# Altium integrated library Linear Technology Power Management LDO Linear Regulators.IntLib: 2339 symbols (part 129 of 131)
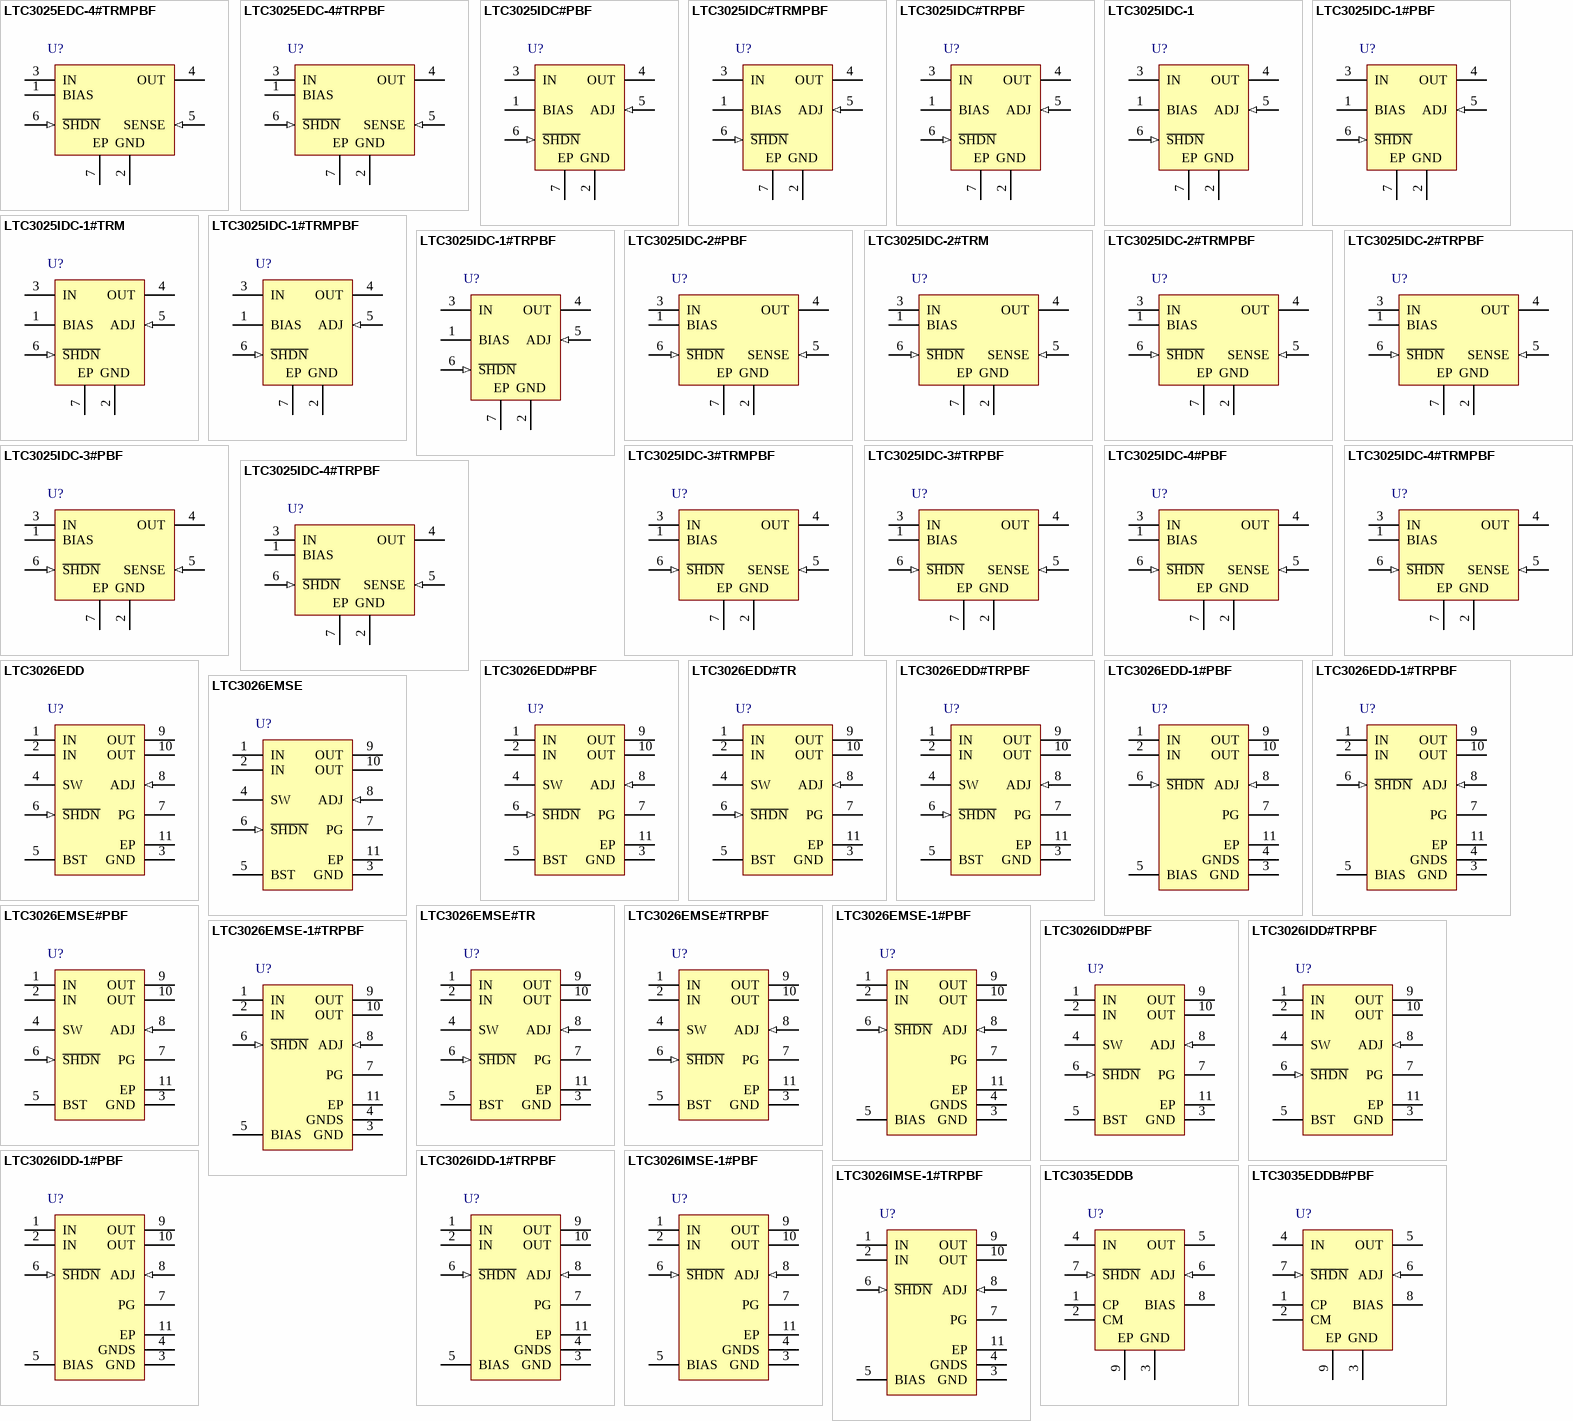
[diagram p197: symbols LTC3025EDC-4#TRMPBF to LTC3035EDDB#PBF]

## LTC3025IDC-3#PBF
designator U?
500 mA Micropower VLDO Linear Regulator, 1.7 to 5.5 V Vin, 1.5 V Vout, 6-pin SON (DC6-6), -40 to 125 degC, Pb-Free; Manufacturer: Linear Technology; PartNumber: LTC3025IDC-3#PBF; Discrete Pass Element: no; Dropout Voltage(V): 0.085; Iout(mA): 500; Isupply(mA): 0.05; Noise(uV): 80; Number of Outputs: 1; Output Voltage: 1.5 V; Vin Max(V): 5.5; Vin Min(V): 1.7; DatasheetVersion: Rev. F; PackageVersion: Rev. B, 06/2010; PackageReference: DC6-6; PackageDescription: 6-Pin Plastic DFN, Body 2 x 2 mm, Pitch 0.5 mm; Supplier 1: Newark; Supplier Part Number 1: 78T3138; RoHS: TRUE; Shutdown Current(uA): 1; Mounting Technology: Surface Mount; Code_JEDEC: MO-229; ComponentLink1Description: Manufacturer URL; ComponentLink1URL: http://www.linear.com/; ComponentLink2Description: Datasheet; ComponentLink2URL: http://cds.linear.com/docs/en/datasheet/30251234ff.pdf; ComponentLink3Description: Package Specification; ComponentLink3URL: http://cds.linear.com/docs/en/packaging/DFN_6_05-08-1703.pdf
footprint LT-DC6-6_V (SON, 6-Leads, Body 2x2mm, Pitch 0.5mm, Thermal Pad 1.42x0.61mm)
pins: 1 BIAS (power) "BIAS Input Voltage. BIAS provides internal power for LTC3025-X circuitry. The BIAS pin should be locally bypassed to ground if the LTC3025-X is more than a few inches away from another source of bulk capacitance. In general, (See Datasheet)", 2 GND (power) "Ground. Connect to a ground plane.", 3 IN (power) "Input Supply Voltage. The output load current is supplied directly from IN. The IN pin should be locally bypassed to ground if the LTC3025-X is more than a few inches away from another source of bulk capacitance. In general, (See Datasheet)", 4 OUT (power) "Regulated Output Voltage. The OUT pin supplies power to the load. A minimum ceramic output capacitor of at least 1uF is required to ensure stability. Larger output capacitors may be required for applications with large (See Datasheet)", 5 SENSE (in) "Output Sense. The sense is the input to the resistor divider driving the error amplifier. Optimum regulation will be obtained at the point where SENSE is connected to OUT. The SENSE pin bias current is 10uA at the nominal (See Datasheet)", 6 ~{SHDN} (in) "Shutdown Input, Active Low. This pin is used to put the LTC3025-X into shutdown. The S\H\D\N\ pin current is typically less than 10nA. The S\H\D\N\ pin cannot be left floating and must be tied to a valid logic level (such as (See Datasheet)", 7 EP (power) "Ground and Heat Sink. Must be soldered to PCB ground plane or large pad for optimal thermal performance."

## LTC3025IDC-3#TRMPBF
designator U?
500 mA Micropower VLDO Linear Regulator, 1.7 to 5.5 V Vin, 1.5 V Vout, 6-pin SON (DC6-6), -40 to 125 degC, Pb-Free, Mini Tape and Reel; Manufacturer: Linear Technology; PartNumber: LTC3025IDC-3#TRMPBF; Discrete Pass Element: no; Dropout Voltage(V): 0.085; Iout(mA): 500; Isupply(mA): 0.05; Noise(uV): 80; Number of Outputs: 1; Output Voltage: 1.5 V; Vin Max(V): 5.5; Vin Min(V): 1.7; DatasheetVersion: Rev. F; PackageVersion: Rev. B, 06/2010; PackageReference: DC6-6; PackageDescription: 6-Pin Plastic DFN, Body 2 x 2 mm, Pitch 0.5 mm; Supplier 1: Digi-Key; Supplier Part Number 1: LTC3025IDC-3#TRMPBF-ND; Packing: Mini Tape and Reel; RoHS: TRUE; Shutdown Current(uA): 1; Mounting Technology: Surface Mount; Code_JEDEC: MO-229; ComponentLink1Description: Manufacturer URL; ComponentLink1URL: http://www.linear.com/; ComponentLink2Description: Datasheet; ComponentLink2URL: http://cds.linear.com/docs/en/datasheet/30251234ff.pdf; ComponentLink3Description: Package Specification; ComponentLink3URL: http://cds.linear.com/docs/en/packaging/DFN_6_05-08-1703.pdf
footprint LT-DC6-6_V (SON, 6-Leads, Body 2x2mm, Pitch 0.5mm, Thermal Pad 1.42x0.61mm)
pins: 1 BIAS (power) "BIAS Input Voltage. BIAS provides internal power for LTC3025-X circuitry. The BIAS pin should be locally bypassed to ground if the LTC3025-X is more than a few inches away from another source of bulk capacitance. In general, (See Datasheet)", 2 GND (power) "Ground. Connect to a ground plane.", 3 IN (power) "Input Supply Voltage. The output load current is supplied directly from IN. The IN pin should be locally bypassed to ground if the LTC3025-X is more than a few inches away from another source of bulk capacitance. In general, (See Datasheet)", 4 OUT (power) "Regulated Output Voltage. The OUT pin supplies power to the load. A minimum ceramic output capacitor of at least 1uF is required to ensure stability. Larger output capacitors may be required for applications with large (See Datasheet)", 5 SENSE (in) "Output Sense. The sense is the input to the resistor divider driving the error amplifier. Optimum regulation will be obtained at the point where SENSE is connected to OUT. The SENSE pin bias current is 10uA at the nominal (See Datasheet)", 6 ~{SHDN} (in) "Shutdown Input, Active Low. This pin is used to put the LTC3025-X into shutdown. The S\H\D\N\ pin current is typically less than 10nA. The S\H\D\N\ pin cannot be left floating and must be tied to a valid logic level (such as (See Datasheet)", 7 EP (power) "Ground and Heat Sink. Must be soldered to PCB ground plane or large pad for optimal thermal performance."

## LTC3025IDC-3#TRPBF
designator U?
500 mA Micropower VLDO Linear Regulator, 1.7 to 5.5 V Vin, 1.5 V Vout, 6-pin SON (DC6-6), -40 to 125 degC, Pb-Free, Tape and Reel; Manufacturer: Linear Technology; PartNumber: LTC3025IDC-3#TRPBF; Discrete Pass Element: no; Dropout Voltage(V): 0.085; Iout(mA): 500; Isupply(mA): 0.05; Noise(uV): 80; Number of Outputs: 1; Output Voltage: 1.5 V; Vin Max(V): 5.5; Vin Min(V): 1.7; DatasheetVersion: Rev. F; PackageVersion: Rev. B, 06/2010; PackageReference: DC6-6; PackageDescription: 6-Pin Plastic DFN, Body 2 x 2 mm, Pitch 0.5 mm; Supplier 1: Digi-Key; Supplier Part Number 1: LTC3025IDC-3#TRPBF-ND; Packing: Tape and Reel; RoHS: TRUE; Shutdown Current(uA): 1; Mounting Technology: Surface Mount; Code_JEDEC: MO-229; ComponentLink1Description: Manufacturer URL; ComponentLink1URL: http://www.linear.com/; ComponentLink2Description: Datasheet; ComponentLink2URL: http://cds.linear.com/docs/en/datasheet/30251234ff.pdf; ComponentLink3Description: Package Specification; ComponentLink3URL: http://cds.linear.com/docs/en/packaging/DFN_6_05-08-1703.pdf
footprint LT-DC6-6_V (SON, 6-Leads, Body 2x2mm, Pitch 0.5mm, Thermal Pad 1.42x0.61mm)
pins: 1 BIAS (power) "BIAS Input Voltage. BIAS provides internal power for LTC3025-X circuitry. The BIAS pin should be locally bypassed to ground if the LTC3025-X is more than a few inches away from another source of bulk capacitance. In general, (See Datasheet)", 2 GND (power) "Ground. Connect to a ground plane.", 3 IN (power) "Input Supply Voltage. The output load current is supplied directly from IN. The IN pin should be locally bypassed to ground if the LTC3025-X is more than a few inches away from another source of bulk capacitance. In general, (See Datasheet)", 4 OUT (power) "Regulated Output Voltage. The OUT pin supplies power to the load. A minimum ceramic output capacitor of at least 1uF is required to ensure stability. Larger output capacitors may be required for applications with large (See Datasheet)", 5 SENSE (in) "Output Sense. The sense is the input to the resistor divider driving the error amplifier. Optimum regulation will be obtained at the point where SENSE is connected to OUT. The SENSE pin bias current is 10uA at the nominal (See Datasheet)", 6 ~{SHDN} (in) "Shutdown Input, Active Low. This pin is used to put the LTC3025-X into shutdown. The S\H\D\N\ pin current is typically less than 10nA. The S\H\D\N\ pin cannot be left floating and must be tied to a valid logic level (such as (See Datasheet)", 7 EP (power) "Ground and Heat Sink. Must be soldered to PCB ground plane or large pad for optimal thermal performance."

## LTC3025IDC-4#PBF
designator U?
500 mA Micropower VLDO Linear Regulator, 2 to 5.5 V Vin, 1.8 V Vout, 6-pin SON (DC6-6), -40 to 125 degC, Pb-Free; Manufacturer: Linear Technology; PartNumber: LTC3025IDC-4#PBF; Discrete Pass Element: no; Dropout Voltage(V): 0.085; Iout(mA): 500; Isupply(mA): 0.05; Noise(uV): 80; Number of Outputs: 1; Output Voltage: 1.8 V; Vin Max(V): 5.5; Vin Min(V): 2; DatasheetVersion: Rev. F; PackageVersion: Rev. B, 06/2010; PackageReference: DC6-6; PackageDescription: 6-Pin Plastic DFN, Body 2 x 2 mm, Pitch 0.5 mm; Supplier 1: Newark; Supplier Part Number 1: 78T3139; RoHS: TRUE; Shutdown Current(uA): 1; Mounting Technology: Surface Mount; Code_JEDEC: MO-229; ComponentLink1Description: Manufacturer URL; ComponentLink1URL: http://www.linear.com/; ComponentLink2Description: Datasheet; ComponentLink2URL: http://cds.linear.com/docs/en/datasheet/30251234ff.pdf; ComponentLink3Description: Package Specification; ComponentLink3URL: http://cds.linear.com/docs/en/packaging/DFN_6_05-08-1703.pdf
footprint LT-DC6-6_V (SON, 6-Leads, Body 2x2mm, Pitch 0.5mm, Thermal Pad 1.42x0.61mm)
pins: 1 BIAS (power) "BIAS Input Voltage. BIAS provides internal power for LTC3025-X circuitry. The BIAS pin should be locally bypassed to ground if the LTC3025-X is more than a few inches away from another source of bulk capacitance. In general, (See Datasheet)", 2 GND (power) "Ground. Connect to a ground plane.", 3 IN (power) "Input Supply Voltage. The output load current is supplied directly from IN. The IN pin should be locally bypassed to ground if the LTC3025-X is more than a few inches away from another source of bulk capacitance. In general, (See Datasheet)", 4 OUT (power) "Regulated Output Voltage. The OUT pin supplies power to the load. A minimum ceramic output capacitor of at least 1uF is required to ensure stability. Larger output capacitors may be required for applications with large (See Datasheet)", 5 SENSE (in) "Output Sense. The sense is the input to the resistor divider driving the error amplifier. Optimum regulation will be obtained at the point where SENSE is connected to OUT. The SENSE pin bias current is 10uA at the nominal (See Datasheet)", 6 ~{SHDN} (in) "Shutdown Input, Active Low. This pin is used to put the LTC3025-X into shutdown. The S\H\D\N\ pin current is typically less than 10nA. The S\H\D\N\ pin cannot be left floating and must be tied to a valid logic level (such as (See Datasheet)", 7 EP (power) "Ground and Heat Sink. Must be soldered to PCB ground plane or large pad for optimal thermal performance."

## LTC3025IDC-4#TRMPBF
designator U?
500 mA Micropower VLDO Linear Regulator, 2 to 5.5 V Vin, 1.8 V Vout, 6-pin SON (DC6-6), -40 to 125 degC, Pb-Free, Mini Tape and Reel; Manufacturer: Linear Technology; PartNumber: LTC3025IDC-4#TRMPBF; Discrete Pass Element: no; Dropout Voltage(V): 0.085; Iout(mA): 500; Isupply(mA): 0.05; Noise(uV): 80; Number of Outputs: 1; Output Voltage: 1.8 V; Vin Max(V): 5.5; Vin Min(V): 2; DatasheetVersion: Rev. F; PackageVersion: Rev. B, 06/2010; PackageReference: DC6-6; PackageDescription: 6-Pin Plastic DFN, Body 2 x 2 mm, Pitch 0.5 mm; Supplier 1: Digi-Key; Supplier Part Number 1: LTC3025IDC-4#TRMPBF-ND; Packing: Mini Tape and Reel; RoHS: TRUE; Shutdown Current(uA): 1; Mounting Technology: Surface Mount; Code_JEDEC: MO-229; ComponentLink1Description: Manufacturer URL; ComponentLink1URL: http://www.linear.com/; ComponentLink2Description: Datasheet; ComponentLink2URL: http://cds.linear.com/docs/en/datasheet/30251234ff.pdf; ComponentLink3Description: Package Specification; ComponentLink3URL: http://cds.linear.com/docs/en/packaging/DFN_6_05-08-1703.pdf
footprint LT-DC6-6_V (SON, 6-Leads, Body 2x2mm, Pitch 0.5mm, Thermal Pad 1.42x0.61mm)
pins: 1 BIAS (power) "BIAS Input Voltage. BIAS provides internal power for LTC3025-X circuitry. The BIAS pin should be locally bypassed to ground if the LTC3025-X is more than a few inches away from another source of bulk capacitance. In general, (See Datasheet)", 2 GND (power) "Ground. Connect to a ground plane.", 3 IN (power) "Input Supply Voltage. The output load current is supplied directly from IN. The IN pin should be locally bypassed to ground if the LTC3025-X is more than a few inches away from another source of bulk capacitance. In general, (See Datasheet)", 4 OUT (power) "Regulated Output Voltage. The OUT pin supplies power to the load. A minimum ceramic output capacitor of at least 1uF is required to ensure stability. Larger output capacitors may be required for applications with large (See Datasheet)", 5 SENSE (in) "Output Sense. The sense is the input to the resistor divider driving the error amplifier. Optimum regulation will be obtained at the point where SENSE is connected to OUT. The SENSE pin bias current is 10uA at the nominal (See Datasheet)", 6 ~{SHDN} (in) "Shutdown Input, Active Low. This pin is used to put the LTC3025-X into shutdown. The S\H\D\N\ pin current is typically less than 10nA. The S\H\D\N\ pin cannot be left floating and must be tied to a valid logic level (such as (See Datasheet)", 7 EP (power) "Ground and Heat Sink. Must be soldered to PCB ground plane or large pad for optimal thermal performance."

## LTC3025IDC-4#TRPBF
designator U?
500 mA Micropower VLDO Linear Regulator, 2 to 5.5 V Vin, 1.8 V Vout, 6-pin SON (DC6-6), -40 to 125 degC, Pb-Free, Tape and Reel; Manufacturer: Linear Technology; PartNumber: LTC3025IDC-4#TRPBF; Discrete Pass Element: no; Dropout Voltage(V): 0.085; Iout(mA): 500; Isupply(mA): 0.05; Noise(uV): 80; Number of Outputs: 1; Output Voltage: 1.8 V; Vin Max(V): 5.5; Vin Min(V): 2; DatasheetVersion: Rev. F; PackageVersion: Rev. B, 06/2010; PackageReference: DC6-6; PackageDescription: 6-Pin Plastic DFN, Body 2 x 2 mm, Pitch 0.5 mm; Supplier 1: Digi-Key; Supplier Part Number 1: LTC3025IDC-4#TRPBF-ND; Packing: Tape and Reel; RoHS: TRUE; Shutdown Current(uA): 1; Mounting Technology: Surface Mount; Code_JEDEC: MO-229; ComponentLink1Description: Manufacturer URL; ComponentLink1URL: http://www.linear.com/; ComponentLink2Description: Datasheet; ComponentLink2URL: http://cds.linear.com/docs/en/datasheet/30251234ff.pdf; ComponentLink3Description: Package Specification; ComponentLink3URL: http://cds.linear.com/docs/en/packaging/DFN_6_05-08-1703.pdf
footprint LT-DC6-6_V (SON, 6-Leads, Body 2x2mm, Pitch 0.5mm, Thermal Pad 1.42x0.61mm)
pins: 1 BIAS (power) "BIAS Input Voltage. BIAS provides internal power for LTC3025-X circuitry. The BIAS pin should be locally bypassed to ground if the LTC3025-X is more than a few inches away from another source of bulk capacitance. In general, (See Datasheet)", 2 GND (power) "Ground. Connect to a ground plane.", 3 IN (power) "Input Supply Voltage. The output load current is supplied directly from IN. The IN pin should be locally bypassed to ground if the LTC3025-X is more than a few inches away from another source of bulk capacitance. In general, (See Datasheet)", 4 OUT (power) "Regulated Output Voltage. The OUT pin supplies power to the load. A minimum ceramic output capacitor of at least 1uF is required to ensure stability. Larger output capacitors may be required for applications with large (See Datasheet)", 5 SENSE (in) "Output Sense. The sense is the input to the resistor divider driving the error amplifier. Optimum regulation will be obtained at the point where SENSE is connected to OUT. The SENSE pin bias current is 10uA at the nominal (See Datasheet)", 6 ~{SHDN} (in) "Shutdown Input, Active Low. This pin is used to put the LTC3025-X into shutdown. The S\H\D\N\ pin current is typically less than 10nA. The S\H\D\N\ pin cannot be left floating and must be tied to a valid logic level (such as (See Datasheet)", 7 EP (power) "Ground and Heat Sink. Must be soldered to PCB ground plane or large pad for optimal thermal performance."

## LTC3026EDD
designator U?
100 mV Dropout Voltage, Internal Boost Converter (or External 5 V Supply) Provides Bias Voltage for Internal N-FET Pass Element, 1.14 to 5.5 V Vin, Adjustable Vout, 10-pin SON (DD-10), -40 to 125 degC; Manufacturer: Linear Technology; PartNumber: LTC3026EDD; Discrete Pass Element: no; Dropout Voltage(V): 0.1; Iout(mA): 1500; Isupply(mA): 0.4; Noise(uV): 110; Number of Outputs: 1; Output Voltage: Adj; PSRR(dB): 42; Shutdown Current(uA): 0.6; Vin Max(V): 5.5; Vin Min(V): 1.14; Vout Max(V): 2.6; DatasheetVersion: Rev. F; PackageVersion: Rev. C, 06/2010; PackageReference: DD-10; PackageDescription: 10-Pin Plastic DFN, Body 3 x 3 mm, Pitch 0.5 mm; Supplier 1: Newark; Supplier Part Number 1: 56M7305; RoHS: FALSE; Vout Min(V): 0.4; Mounting Technology: Surface Mount; Code_JEDEC: MO-229; ComponentLink1Description: Manufacturer URL; ComponentLink1URL: http://www.linear.com/; ComponentLink2Description: Datasheet; ComponentLink2URL: http://cds.linear.com/docs/en/datasheet/3026ff.pdf; ComponentLink3Description: Package Specification; ComponentLink3URL: http://cds.linear.com/docs/en/packaging/DFN_10_05-08-1699.pdf
footprint LT-DD-10_V (SON, 10-Leads, Body 3x3mm, Pitch 0.5mm, Thermal Pad 2.38x1.65mm)
pins: 1 IN (power) "Input Supply Voltage. Output load current is supplied directly from IN. The IN pin should be locally bypassed to ground if the LTC3026 is more than a few inches away from another source of bulk capacitance. In general, the (See Datasheet)", 2 IN (power) "Input Supply Voltage. Output load current is supplied directly from IN. The IN pin should be locally bypassed to ground if the LTC3026 is more than a few inches away from another source of bulk capacitance. In general, the (See Datasheet)", 3 GND (power) "Ground and Heat Sink. Connect the exposed pad to the PCB ground plane or large pad for optimum thermal performance.", 4 SW "Boost Switching Pin. This is the boost converter switching pin. A 4.7uH to 40uH inductor able to handle a peak current of 150mA is connected from this pin to VIN. The boost converter can be disabled by floating this pin. (See Datasheet)", 5 BST "Boost Output Voltage Pin. With boost converter enabled bypass the BST pin with a >=4.7uF low ESR ceramic capacitor to GND (CBST). BST does not load VIN when in shutdown, but is diode connected to IN through the external (See Datasheet)", 6 ~{SHDN} (in) "Shutdown Input Pin, Active Low. This pin is used to put the LTC3026 into shutdown. The S\H\D\N\ pin current is typically less than 10nA. The S\H\D\N\ pin cannot be left floating and must be tied to a valid logic level (such (See Datasheet)", 7 PG (hiz) "Power Good Pin. When PG is high impedance OUT is in regulation, and low impedance when OUT is in shutdown or out of regulation.", 8 ADJ (in) "Output Adjust Pin. This is the input to the error amplifier. It has a typical bias current of 0.1nA flowing into the pin. The ADJ pin reference voltage is 0.4V referenced to ground. The output voltage range is 0.4V to 2.6V (See Datasheet)", 9 OUT (power) "Regulated Output Voltage. The OUT pins supply power to the load. A minimum output capacitance of 5uF is required to ensure stability. Larger output capacitors may be required for applications with large transient loads to (See Datasheet)", 10 OUT (power) "Regulated Output Voltage. The OUT pins supply power to the load. A minimum output capacitance of 5uF is required to ensure stability. Larger output capacitors may be required for applications with large transient loads to (See Datasheet)", 11 EP (power) "Ground and Heat Sink. Connect the exposed pad to the PCB ground plane or large pad for optimum thermal performance."

## LTC3026EDD#PBF
designator U?
100 mV Dropout Voltage, Internal Boost Converter (or External 5 V Supply) Provides Bias Voltage for Internal N-FET Pass Element, 1.14 to 5.5 V Vin, Adjustable Vout, 10-pin SON (DD-10), -40 to 125 degC, Pb-Free; Manufacturer: Linear Technology; PartNumber: LTC3026EDD#PBF; Discrete Pass Element: no; Dropout Voltage(V): 0.1; Iout(mA): 1500; Isupply(mA): 0.4; Noise(uV): 110; Number of Outputs: 1; Output Voltage: Adj; PSRR(dB): 42; Shutdown Current(uA): 0.6; Vin Max(V): 5.5; Vin Min(V): 1.14; Vout Max(V): 2.6; DatasheetVersion: Rev. F; PackageVersion: Rev. C, 06/2010; PackageReference: DD-10; PackageDescription: 10-Pin Plastic DFN, Body 3 x 3 mm, Pitch 0.5 mm; Supplier 1: Digi-Key; Supplier Part Number 1: LTC3026EDD#PBF-ND; Supplier 2: Farnell; Supplier Part Number 2: 1663705; Supplier 3: Newark; Supplier Part Number 3: 56M7306; RoHS: TRUE; Vout Min(V): 0.4; Mounting Technology: Surface Mount; Code_JEDEC: MO-229; ComponentLink1Description: Manufacturer URL; ComponentLink1URL: http://www.linear.com/; ComponentLink2Description: Datasheet; ComponentLink2URL: http://cds.linear.com/docs/en/datasheet/3026ff.pdf; ComponentLink3Description: Package Specification; ComponentLink3URL: http://cds.linear.com/docs/en/packaging/DFN_10_05-08-1699.pdf
footprint LT-DD-10_V (SON, 10-Leads, Body 3x3mm, Pitch 0.5mm, Thermal Pad 2.38x1.65mm)
pins: 1 IN (power) "Input Supply Voltage. Output load current is supplied directly from IN. The IN pin should be locally bypassed to ground if the LTC3026 is more than a few inches away from another source of bulk capacitance. In general, the (See Datasheet)", 2 IN (power) "Input Supply Voltage. Output load current is supplied directly from IN. The IN pin should be locally bypassed to ground if the LTC3026 is more than a few inches away from another source of bulk capacitance. In general, the (See Datasheet)", 3 GND (power) "Ground and Heat Sink. Connect the exposed pad to the PCB ground plane or large pad for optimum thermal performance.", 4 SW "Boost Switching Pin. This is the boost converter switching pin. A 4.7uH to 40uH inductor able to handle a peak current of 150mA is connected from this pin to VIN. The boost converter can be disabled by floating this pin. (See Datasheet)", 5 BST "Boost Output Voltage Pin. With boost converter enabled bypass the BST pin with a >=4.7uF low ESR ceramic capacitor to GND (CBST). BST does not load VIN when in shutdown, but is diode connected to IN through the external (See Datasheet)", 6 ~{SHDN} (in) "Shutdown Input Pin, Active Low. This pin is used to put the LTC3026 into shutdown. The S\H\D\N\ pin current is typically less than 10nA. The S\H\D\N\ pin cannot be left floating and must be tied to a valid logic level (such (See Datasheet)", 7 PG (hiz) "Power Good Pin. When PG is high impedance OUT is in regulation, and low impedance when OUT is in shutdown or out of regulation.", 8 ADJ (in) "Output Adjust Pin. This is the input to the error amplifier. It has a typical bias current of 0.1nA flowing into the pin. The ADJ pin reference voltage is 0.4V referenced to ground. The output voltage range is 0.4V to 2.6V (See Datasheet)", 9 OUT (power) "Regulated Output Voltage. The OUT pins supply power to the load. A minimum output capacitance of 5uF is required to ensure stability. Larger output capacitors may be required for applications with large transient loads to (See Datasheet)", 10 OUT (power) "Regulated Output Voltage. The OUT pins supply power to the load. A minimum output capacitance of 5uF is required to ensure stability. Larger output capacitors may be required for applications with large transient loads to (See Datasheet)", 11 EP (power) "Ground and Heat Sink. Connect the exposed pad to the PCB ground plane or large pad for optimum thermal performance."

## LTC3026EDD#TR
designator U?
100 mV Dropout Voltage, Internal Boost Converter (or External 5 V Supply) Provides Bias Voltage for Internal N-FET Pass Element, 1.14 to 5.5 V Vin, Adjustable Vout, 10-pin SON (DD-10), -40 to 125 degC, Tape and Reel; Manufacturer: Linear Technology; PartNumber: LTC3026EDD#TR; Discrete Pass Element: no; Dropout Voltage(V): 0.1; Iout(mA): 1500; Isupply(mA): 0.4; Noise(uV): 110; Number of Outputs: 1; Output Voltage: Adj; PSRR(dB): 42; Shutdown Current(uA): 0.6; Vin Max(V): 5.5; Vin Min(V): 1.14; Vout Max(V): 2.6; DatasheetVersion: Rev. F; PackageVersion: Rev. C, 06/2010; PackageReference: DD-10; PackageDescription: 10-Pin Plastic DFN, Body 3 x 3 mm, Pitch 0.5 mm; Packing: Tape and Reel; RoHS: FALSE; Vout Min(V): 0.4; Mounting Technology: Surface Mount; Code_JEDEC: MO-229; ComponentLink1Description: Manufacturer URL; ComponentLink1URL: http://www.linear.com/; ComponentLink2Description: Datasheet; ComponentLink2URL: http://cds.linear.com/docs/en/datasheet/3026ff.pdf; ComponentLink3Description: Package Specification; ComponentLink3URL: http://cds.linear.com/docs/en/packaging/DFN_10_05-08-1699.pdf
footprint LT-DD-10_V (SON, 10-Leads, Body 3x3mm, Pitch 0.5mm, Thermal Pad 2.38x1.65mm)
pins: 1 IN (power) "Input Supply Voltage. Output load current is supplied directly from IN. The IN pin should be locally bypassed to ground if the LTC3026 is more than a few inches away from another source of bulk capacitance. In general, the (See Datasheet)", 2 IN (power) "Input Supply Voltage. Output load current is supplied directly from IN. The IN pin should be locally bypassed to ground if the LTC3026 is more than a few inches away from another source of bulk capacitance. In general, the (See Datasheet)", 3 GND (power) "Ground and Heat Sink. Connect the exposed pad to the PCB ground plane or large pad for optimum thermal performance.", 4 SW "Boost Switching Pin. This is the boost converter switching pin. A 4.7uH to 40uH inductor able to handle a peak current of 150mA is connected from this pin to VIN. The boost converter can be disabled by floating this pin. (See Datasheet)", 5 BST "Boost Output Voltage Pin. With boost converter enabled bypass the BST pin with a >=4.7uF low ESR ceramic capacitor to GND (CBST). BST does not load VIN when in shutdown, but is diode connected to IN through the external (See Datasheet)", 6 ~{SHDN} (in) "Shutdown Input Pin, Active Low. This pin is used to put the LTC3026 into shutdown. The S\H\D\N\ pin current is typically less than 10nA. The S\H\D\N\ pin cannot be left floating and must be tied to a valid logic level (such (See Datasheet)", 7 PG (hiz) "Power Good Pin. When PG is high impedance OUT is in regulation, and low impedance when OUT is in shutdown or out of regulation.", 8 ADJ (in) "Output Adjust Pin. This is the input to the error amplifier. It has a typical bias current of 0.1nA flowing into the pin. The ADJ pin reference voltage is 0.4V referenced to ground. The output voltage range is 0.4V to 2.6V (See Datasheet)", 9 OUT (power) "Regulated Output Voltage. The OUT pins supply power to the load. A minimum output capacitance of 5uF is required to ensure stability. Larger output capacitors may be required for applications with large transient loads to (See Datasheet)", 10 OUT (power) "Regulated Output Voltage. The OUT pins supply power to the load. A minimum output capacitance of 5uF is required to ensure stability. Larger output capacitors may be required for applications with large transient loads to (See Datasheet)", 11 EP (power) "Ground and Heat Sink. Connect the exposed pad to the PCB ground plane or large pad for optimum thermal performance."

## LTC3026EDD#TRPBF
designator U?
100 mV Dropout Voltage, Internal Boost Converter (or External 5 V Supply) Provides Bias Voltage for Internal N-FET Pass Element, 1.14 to 5.5 V Vin, Adjustable Vout, 10-pin SON (DD-10), -40 to 125 degC, Pb-Free, Tape and Reel; Manufacturer: Linear Technology; PartNumber: LTC3026EDD#TRPBF; Discrete Pass Element: no; Dropout Voltage(V): 0.1; Iout(mA): 1500; Isupply(mA): 0.4; Noise(uV): 110; Number of Outputs: 1; Output Voltage: Adj; PSRR(dB): 42; Shutdown Current(uA): 0.6; Vin Max(V): 5.5; Vin Min(V): 1.14; Vout Max(V): 2.6; DatasheetVersion: Rev. F; PackageVersion: Rev. C, 06/2010; PackageReference: DD-10; PackageDescription: 10-Pin Plastic DFN, Body 3 x 3 mm, Pitch 0.5 mm; Supplier 1: Digi-Key; Supplier Part Number 1: LTC3026EDD#TRPBFTR-ND; Supplier 2: Digi-Key; Supplier Part Number 2: LTC3026EDD#TRPBFCT-ND; Supplier 3: Digi-Key; Supplier Part Number 3: LTC3026EDD#TRPBFDKR-ND; Supplier 4: Newark; Supplier Part Number 4: 56M7308; Packing: Tape and Reel; RoHS: TRUE; Vout Min(V): 0.4; Mounting Technology: Surface Mount; Code_JEDEC: MO-229; ComponentLink1Description: Manufacturer URL; ComponentLink1URL: http://www.linear.com/; ComponentLink2Description: Datasheet; ComponentLink2URL: http://cds.linear.com/docs/en/datasheet/3026ff.pdf; ComponentLink3Description: Package Specification; ComponentLink3URL: http://cds.linear.com/docs/en/packaging/DFN_10_05-08-1699.pdf
footprint LT-DD-10_V (SON, 10-Leads, Body 3x3mm, Pitch 0.5mm, Thermal Pad 2.38x1.65mm)
pins: 1 IN (power) "Input Supply Voltage. Output load current is supplied directly from IN. The IN pin should be locally bypassed to ground if the LTC3026 is more than a few inches away from another source of bulk capacitance. In general, the (See Datasheet)", 2 IN (power) "Input Supply Voltage. Output load current is supplied directly from IN. The IN pin should be locally bypassed to ground if the LTC3026 is more than a few inches away from another source of bulk capacitance. In general, the (See Datasheet)", 3 GND (power) "Ground and Heat Sink. Connect the exposed pad to the PCB ground plane or large pad for optimum thermal performance.", 4 SW "Boost Switching Pin. This is the boost converter switching pin. A 4.7uH to 40uH inductor able to handle a peak current of 150mA is connected from this pin to VIN. The boost converter can be disabled by floating this pin. (See Datasheet)", 5 BST "Boost Output Voltage Pin. With boost converter enabled bypass the BST pin with a >=4.7uF low ESR ceramic capacitor to GND (CBST). BST does not load VIN when in shutdown, but is diode connected to IN through the external (See Datasheet)", 6 ~{SHDN} (in) "Shutdown Input Pin, Active Low. This pin is used to put the LTC3026 into shutdown. The S\H\D\N\ pin current is typically less than 10nA. The S\H\D\N\ pin cannot be left floating and must be tied to a valid logic level (such (See Datasheet)", 7 PG (hiz) "Power Good Pin. When PG is high impedance OUT is in regulation, and low impedance when OUT is in shutdown or out of regulation.", 8 ADJ (in) "Output Adjust Pin. This is the input to the error amplifier. It has a typical bias current of 0.1nA flowing into the pin. The ADJ pin reference voltage is 0.4V referenced to ground. The output voltage range is 0.4V to 2.6V (See Datasheet)", 9 OUT (power) "Regulated Output Voltage. The OUT pins supply power to the load. A minimum output capacitance of 5uF is required to ensure stability. Larger output capacitors may be required for applications with large transient loads to (See Datasheet)", 10 OUT (power) "Regulated Output Voltage. The OUT pins supply power to the load. A minimum output capacitance of 5uF is required to ensure stability. Larger output capacitors may be required for applications with large transient loads to (See Datasheet)", 11 EP (power) "Ground and Heat Sink. Connect the exposed pad to the PCB ground plane or large pad for optimum thermal performance."

## LTC3026EDD-1#PBF
designator U?
1.5 A Low Input Voltage VLDO Linear Regulator, Boost Converter Disabled, Require 5 V External Supply, 1.14 to 5.5 V Vin, Adjustable Vout, 10-pin SON (DD-10), -40 to 125 degC, Pb-Free; Manufacturer: Linear Technology; PartNumber: LTC3026EDD-1#PBF; Discrete Pass Element: no; Dropout Voltage(V): 0.1; Iout(mA): 1500; Isupply(mA): 0.095; Noise(uV): 110; Number of Outputs: 1; Output Voltage: Adj; PSRR(dB): 42; Shutdown Current(uA): 0.6; Vin Max(V): 5.5; Vin Min(V): 1.14; Vout Max(V): 2.6; Vout Min(V): 0.4; PackageVersion: Rev. C, 06/2010; PackageReference: DD-10; PackageDescription: 10-Pin Plastic DFN, Body 3 x 3 mm, Pitch 0.5 mm; Supplier 1: Digi-Key; Supplier Part Number 1: LTC3026EDD-1#PBF-ND; Supplier 2: Newark; Supplier Part Number 2: 27W9443; RoHS: TRUE; Mounting Technology: Surface Mount; Code_JEDEC: MO-229; ComponentLink1Description: Manufacturer URL; ComponentLink1URL: http://www.linear.com/; ComponentLink2Description: Datasheet; ComponentLink2URL: http://cds.linear.com/docs/en/datasheet/30261f.pdf; ComponentLink3Description: Package Specification; ComponentLink3URL: http://cds.linear.com/docs/en/packaging/DFN_10_05-08-1699.pdf
footprint LT-DD-10_V (SON, 10-Leads, Body 3x3mm, Pitch 0.5mm, Thermal Pad 2.38x1.65mm)
pins: 1 IN (power) "Input Supply Voltage. Output load current is supplied directly from IN. The IN pin should be locally bypassed to ground if the LTC3026 is more than a few inches away from another source of bulk capacitance. In general, the (See Datasheet)", 2 IN (power) "Input Supply Voltage. Output load current is supplied directly from IN. The IN pin should be locally bypassed to ground if the LTC3026 is more than a few inches away from another source of bulk capacitance. In general, the (See Datasheet)", 3 GND (power) "Ground and Heat Sink. Connect the exposed pad to the PCB ground plane or large pad for optimum thermal performance.", 4 GNDS (power) "Ground Sense Pin. Tie directly to Pin 3 GND external to the part.", 5 BIAS (power) "BIAS Voltage Pin. Must be connected to an external 5V supply. A 1uF low ESR ceramic capacitor is recommended for bypassing the BIAS pin.", 6 ~{SHDN} (in) "Shutdown Input Pin, Active Low. This pin is used to put the LTC3026 into shutdown. The S\H\D\N\ pin current is typically less than 10nA. The S\H\D\N\ pin cannot be left floating and must be tied to a valid logic level (such (See Datasheet)", 7 PG (hiz) "Power Good Pin. When PG is high impedance OUT is in regulation, and low impedance when OUT is in shutdown or out of regulation.", 8 ADJ (in) "Output Adjust Pin. This is the input to the error amplifier. It has a typical bias current of 0.1nA flowing into the pin. The ADJ pin reference voltage is 0.4V referenced to ground. The output voltage range is 0.4V to 2.6V (See Datasheet)", 9 OUT (power) "Regulated Output Voltage. The OUT pins supply power to the load. A minimum output capacitance of 5uF is required to ensure stability. Larger output capacitors may be required for applications with large transient loads to (See Datasheet)", 10 OUT (power) "Regulated Output Voltage. The OUT pins supply power to the load. A minimum output capacitance of 5uF is required to ensure stability. Larger output capacitors may be required for applications with large transient loads to (See Datasheet)", 11 EP (power) "Ground and Heat Sink. Connect the exposed pad to the PCB ground plane or large pad for optimum thermal performance."

## LTC3026EDD-1#TRPBF
designator U?
1.5 A Low Input Voltage VLDO Linear Regulator, Boost Converter Disabled, Require 5 V External Supply, 1.14 to 5.5 V Vin, Adjustable Vout, 10-pin SON (DD-10), -40 to 125 degC, Pb-Free, Tape and Reel; Manufacturer: Linear Technology; PartNumber: LTC3026EDD-1#TRPBF; Discrete Pass Element: no; Dropout Voltage(V): 0.1; Iout(mA): 1500; Isupply(mA): 0.095; Noise(uV): 110; Number of Outputs: 1; Output Voltage: Adj; PSRR(dB): 42; Shutdown Current(uA): 0.6; Vin Max(V): 5.5; Vin Min(V): 1.14; Vout Max(V): 2.6; Vout Min(V): 0.4; PackageVersion: Rev. C, 06/2010; PackageReference: DD-10; PackageDescription: 10-Pin Plastic DFN, Body 3 x 3 mm, Pitch 0.5 mm; Supplier 1: Digi-Key; Supplier Part Number 1: LTC3026EDD-1#TRPBF-ND; Supplier 2: Newark; Supplier Part Number 2: 27W9444; Packing: Tape and Reel; RoHS: TRUE; Mounting Technology: Surface Mount; Code_JEDEC: MO-229; ComponentLink1Description: Manufacturer URL; ComponentLink1URL: http://www.linear.com/; ComponentLink2Description: Datasheet; ComponentLink2URL: http://cds.linear.com/docs/en/datasheet/30261f.pdf; ComponentLink3Description: Package Specification; ComponentLink3URL: http://cds.linear.com/docs/en/packaging/DFN_10_05-08-1699.pdf
footprint LT-DD-10_V (SON, 10-Leads, Body 3x3mm, Pitch 0.5mm, Thermal Pad 2.38x1.65mm)
pins: 1 IN (power) "Input Supply Voltage. Output load current is supplied directly from IN. The IN pin should be locally bypassed to ground if the LTC3026 is more than a few inches away from another source of bulk capacitance. In general, the (See Datasheet)", 2 IN (power) "Input Supply Voltage. Output load current is supplied directly from IN. The IN pin should be locally bypassed to ground if the LTC3026 is more than a few inches away from another source of bulk capacitance. In general, the (See Datasheet)", 3 GND (power) "Ground and Heat Sink. Connect the exposed pad to the PCB ground plane or large pad for optimum thermal performance.", 4 GNDS (power) "Ground Sense Pin. Tie directly to Pin 3 GND external to the part.", 5 BIAS (power) "BIAS Voltage Pin. Must be connected to an external 5V supply. A 1uF low ESR ceramic capacitor is recommended for bypassing the BIAS pin.", 6 ~{SHDN} (in) "Shutdown Input Pin, Active Low. This pin is used to put the LTC3026 into shutdown. The S\H\D\N\ pin current is typically less than 10nA. The S\H\D\N\ pin cannot be left floating and must be tied to a valid logic level (such (See Datasheet)", 7 PG (hiz) "Power Good Pin. When PG is high impedance OUT is in regulation, and low impedance when OUT is in shutdown or out of regulation.", 8 ADJ (in) "Output Adjust Pin. This is the input to the error amplifier. It has a typical bias current of 0.1nA flowing into the pin. The ADJ pin reference voltage is 0.4V referenced to ground. The output voltage range is 0.4V to 2.6V (See Datasheet)", 9 OUT (power) "Regulated Output Voltage. The OUT pins supply power to the load. A minimum output capacitance of 5uF is required to ensure stability. Larger output capacitors may be required for applications with large transient loads to (See Datasheet)", 10 OUT (power) "Regulated Output Voltage. The OUT pins supply power to the load. A minimum output capacitance of 5uF is required to ensure stability. Larger output capacitors may be required for applications with large transient loads to (See Datasheet)", 11 EP (power) "Ground and Heat Sink. Connect the exposed pad to the PCB ground plane or large pad for optimum thermal performance."

## LTC3026EMSE
designator U?
Operates with VIN = 1.14 V, 100 mV Dropout Voltage, Internal Boost Converter (or External 5V Supply) Provides Bias Voltage for Internal N-FET Pass Element, 1.14 to 5.5 V Vin, Adjustable Vout, 10-pin SOP (MSE-10-EDP), -40 to 125 degC; Manufacturer: Linear Technology; PartNumber: LTC3026EMSE; Discrete Pass Element: no; Dropout Voltage(V): 0.1; Iout(mA): 1500; Isupply(mA): 0.4; Noise(uV): 110; Number of Outputs: 1; Output Voltage: Adj; PSRR(dB): 42; Shutdown Current(uA): 0.6; Vin Max(V): 5.5; Vin Min(V): 1.14; Vout Max(V): 2.6; DatasheetVersion: Rev. F; PackageVersion: Rev. I, 05/2013; PackageReference: MSE-10; PackageDescription: 10-Pin Plastic MSOP, Exposed Die Pad, Body 3 x 3 mm, Pitch 0.5 mm; Supplier 1: Newark; Supplier Part Number 1: 56M7309; RoHS: FALSE; Vout Min(V): 0.4; Mounting Technology: Surface Mount; ComponentLink1Description: Manufacturer URL; ComponentLink1URL: http://www.linear.com/; ComponentLink2Description: Datasheet; ComponentLink2URL: http://cds.linear.com/docs/en/datasheet/3026ff.pdf; ComponentLink3Description: Package Specification; ComponentLink3URL: http://cds.linear.com/docs/en/packaging/05081664_I_MSE.pdf
footprint LT-MSE-10-EDP_N (SOP, 10-Leads, Body 3x3mm, Pitch 0.5mm, Thermal Pad 1.88x1.68mm, IPC Medium Density)
footprint LT-MSE-10-EDP_L (SOP, 10-Leads, Body 3x3mm, Pitch 0.5mm, Thermal Pad 1.88x1.68mm, IPC High Density)
footprint LT-MSE-10-EDP_M (SOP, 10-Leads, Body 3x3mm, Pitch 0.5mm, Thermal Pad 1.88x1.68mm, IPC Low Density)
pins: 1 IN (power) "Input Supply Voltage. Output load current is supplied directly from IN. The IN pin should be locally bypassed to ground if the LTC3026 is more than a few inches away from another source of bulk capacitance. In general, the (See Datasheet)", 2 IN (power) "Input Supply Voltage. Output load current is supplied directly from IN. The IN pin should be locally bypassed to ground if the LTC3026 is more than a few inches away from another source of bulk capacitance. In general, the (See Datasheet)", 3 GND (power) "Ground and Heat Sink. Connect the exposed pad to the PCB ground plane or large pad for optimum thermal performance.", 4 SW "Boost Switching Pin. This is the boost converter switching pin. A 4.7uH to 40uH inductor able to handle a peak current of 150mA is connected from this pin to VIN. The boost converter can be disabled by floating this pin. (See Datasheet)", 5 BST (power) "Boost Output Voltage Pin. With boost converter enabled bypass the BST pin with a >=4.7uF low ESR ceramic capacitor to GND (CBST). BST does not load VIN when in shutdown, but is diode connected to IN through the external (See Datasheet)", 6 ~{SHDN} (in) "Shutdown Input Pin, Active Low. This pin is used to put the LTC3026 into shutdown. The S\H\D\N\ pin current is typically less than 10nA. The S\H\D\N\ pin cannot be left floating and must be tied to a valid logic level (such (See Datasheet)", 7 PG (hiz) "Power Good Pin. When PG is high impedance OUT is in regulation, and low impedance when OUT is in shutdown or out of regulation.", 8 ADJ (in) "Output Adjust Pin. This is the input to the error amplifier. It has a typical bias current of 0.1nA flowing into the pin. The ADJ pin reference voltage is 0.4V referenced to ground. The output voltage range is 0.4V to 2.6V (See Datasheet)", 9 OUT (power) "Regulated Output Voltage. The OUT pins supply power to the load. A minimum output capacitance of 5uF is required to ensure stability. Larger output capacitors may be required for applications with large transient loads to (See Datasheet)", 10 OUT (power) "Regulated Output Voltage. The OUT pins supply power to the load. A minimum output capacitance of 5uF is required to ensure stability. Larger output capacitors may be required for applications with large transient loads to (See Datasheet)", 11 EP (power) "Ground and Heat Sink. Connect the exposed pad to the PCB ground plane or large pad for optimum thermal performance."

## LTC3026EMSE#PBF
designator U?
Operates with VIN = 1.14 V, 100 mV Dropout Voltage, Internal Boost Converter (or External 5V Supply) Provides Bias Voltage for Internal N-FET Pass Element, 1.14 to 5.5 V Vin, Adjustable Vout, 10-pin SOP (MSE-10-EDP), -40 to 125 degC, Pb-Free; Manufacturer: Linear Technology; PartNumber: LTC3026EMSE#PBF; Discrete Pass Element: no; Dropout Voltage(V): 0.1; Iout(mA): 1500; Isupply(mA): 0.4; Noise(uV): 110; Number of Outputs: 1; Output Voltage: Adj; PSRR(dB): 42; Shutdown Current(uA): 0.6; Vin Max(V): 5.5; Vin Min(V): 1.14; Vout Max(V): 2.6; DatasheetVersion: Rev. F; PackageVersion: Rev. I, 05/2013; PackageReference: MSE-10; PackageDescription: 10-Pin Plastic MSOP, Exposed Die Pad, Body 3 x 3 mm, Pitch 0.5 mm; Supplier 1: Digi-Key; Supplier Part Number 1: LTC3026EMSE#PBF-ND; Supplier 2: Farnell; Supplier Part Number 2: 1663706; Supplier 3: Newark; Supplier Part Number 3: 56M7310; RoHS: TRUE; Vout Min(V): 0.4; Mounting Technology: Surface Mount; ComponentLink1Description: Manufacturer URL; ComponentLink1URL: http://www.linear.com/; ComponentLink2Description: Datasheet; ComponentLink2URL: http://cds.linear.com/docs/en/datasheet/3026ff.pdf; ComponentLink3Description: Package Specification; ComponentLink3URL: http://cds.linear.com/docs/en/packaging/05081664_I_MSE.pdf
footprint LT-MSE-10-EDP_N (SOP, 10-Leads, Body 3x3mm, Pitch 0.5mm, Thermal Pad 1.88x1.68mm, IPC Medium Density)
footprint LT-MSE-10-EDP_L (SOP, 10-Leads, Body 3x3mm, Pitch 0.5mm, Thermal Pad 1.88x1.68mm, IPC High Density)
footprint LT-MSE-10-EDP_M (SOP, 10-Leads, Body 3x3mm, Pitch 0.5mm, Thermal Pad 1.88x1.68mm, IPC Low Density)
pins: 1 IN (power) "Input Supply Voltage. Output load current is supplied directly from IN. The IN pin should be locally bypassed to ground if the LTC3026 is more than a few inches away from another source of bulk capacitance. In general, the (See Datasheet)", 2 IN (power) "Input Supply Voltage. Output load current is supplied directly from IN. The IN pin should be locally bypassed to ground if the LTC3026 is more than a few inches away from another source of bulk capacitance. In general, the (See Datasheet)", 3 GND (power) "Ground and Heat Sink. Connect the exposed pad to the PCB ground plane or large pad for optimum thermal performance.", 4 SW "Boost Switching Pin. This is the boost converter switching pin. A 4.7uH to 40uH inductor able to handle a peak current of 150mA is connected from this pin to VIN. The boost converter can be disabled by floating this pin. (See Datasheet)", 5 BST (power) "Boost Output Voltage Pin. With boost converter enabled bypass the BST pin with a >=4.7uF low ESR ceramic capacitor to GND (CBST). BST does not load VIN when in shutdown, but is diode connected to IN through the external (See Datasheet)", 6 ~{SHDN} (in) "Shutdown Input Pin, Active Low. This pin is used to put the LTC3026 into shutdown. The S\H\D\N\ pin current is typically less than 10nA. The S\H\D\N\ pin cannot be left floating and must be tied to a valid logic level (such (See Datasheet)", 7 PG (hiz) "Power Good Pin. When PG is high impedance OUT is in regulation, and low impedance when OUT is in shutdown or out of regulation.", 8 ADJ (in) "Output Adjust Pin. This is the input to the error amplifier. It has a typical bias current of 0.1nA flowing into the pin. The ADJ pin reference voltage is 0.4V referenced to ground. The output voltage range is 0.4V to 2.6V (See Datasheet)", 9 OUT (power) "Regulated Output Voltage. The OUT pins supply power to the load. A minimum output capacitance of 5uF is required to ensure stability. Larger output capacitors may be required for applications with large transient loads to (See Datasheet)", 10 OUT (power) "Regulated Output Voltage. The OUT pins supply power to the load. A minimum output capacitance of 5uF is required to ensure stability. Larger output capacitors may be required for applications with large transient loads to (See Datasheet)", 11 EP (power) "Ground and Heat Sink. Connect the exposed pad to the PCB ground plane or large pad for optimum thermal performance."

## LTC3026EMSE#TR
designator U?
100 mV Dropout Voltage, Internal Boost Converter (or External 5 V Supply) Provides Bias Voltage for Internal N-FET Pass Element, 1.14 to 5.5 V Vin, Adjustable Vout, 10-pin SOP (MSE-10-EDP), -40 to 125 degC, Tape and Reel; Manufacturer: Linear Technology; PartNumber: LTC3026EMSE#TR; Discrete Pass Element: no; Dropout Voltage(V): 0.1; Iout(mA): 1500; Isupply(mA): 0.4; Noise(uV): 110; Number of Outputs: 1; Output Voltage: Adj; PSRR(dB): 42; Shutdown Current(uA): 0.6; Vin Max(V): 5.5; Vin Min(V): 1.14; Vout Max(V): 2.6; DatasheetVersion: Rev. F; PackageVersion: Rev. I, 05/2013; PackageReference: MSE-10; PackageDescription: 10-Pin Plastic MSOP, Exposed Die Pad, Body 3 x 3 mm, Pitch 0.5 mm; Supplier 1: Newark; Supplier Part Number 1: 56M7311; Packing: Tape and Reel; RoHS: FALSE; Vout Min(V): 0.4; Mounting Technology: Surface Mount; ComponentLink1Description: Manufacturer URL; ComponentLink1URL: http://www.linear.com/; ComponentLink2Description: Datasheet; ComponentLink2URL: http://cds.linear.com/docs/en/datasheet/3026ff.pdf; ComponentLink3Description: Package Specification; ComponentLink3URL: http://cds.linear.com/docs/en/packaging/05081664_I_MSE.pdf
footprint LT-MSE-10-EDP_N (SOP, 10-Leads, Body 3x3mm, Pitch 0.5mm, Thermal Pad 1.88x1.68mm, IPC Medium Density)
footprint LT-MSE-10-EDP_L (SOP, 10-Leads, Body 3x3mm, Pitch 0.5mm, Thermal Pad 1.88x1.68mm, IPC High Density)
footprint LT-MSE-10-EDP_M (SOP, 10-Leads, Body 3x3mm, Pitch 0.5mm, Thermal Pad 1.88x1.68mm, IPC Low Density)
pins: 1 IN (power) "Input Supply Voltage. Output load current is supplied directly from IN. The IN pin should be locally bypassed to ground if the LTC3026 is more than a few inches away from another source of bulk capacitance. In general, the (See Datasheet)", 2 IN (power) "Input Supply Voltage. Output load current is supplied directly from IN. The IN pin should be locally bypassed to ground if the LTC3026 is more than a few inches away from another source of bulk capacitance. In general, the (See Datasheet)", 3 GND (power) "Ground and Heat Sink. Connect the exposed pad to the PCB ground plane or large pad for optimum thermal performance.", 4 SW "Boost Switching Pin. This is the boost converter switching pin. A 4.7uH to 40uH inductor able to handle a peak current of 150mA is connected from this pin to VIN. The boost converter can be disabled by floating this pin. (See Datasheet)", 5 BST (power) "Boost Output Voltage Pin. With boost converter enabled bypass the BST pin with a >=4.7uF low ESR ceramic capacitor to GND (CBST). BST does not load VIN when in shutdown, but is diode connected to IN through the external (See Datasheet)", 6 ~{SHDN} (in) "Shutdown Input Pin, Active Low. This pin is used to put the LTC3026 into shutdown. The S\H\D\N\ pin current is typically less than 10nA. The S\H\D\N\ pin cannot be left floating and must be tied to a valid logic level (such (See Datasheet)", 7 PG (hiz) "Power Good Pin. When PG is high impedance OUT is in regulation, and low impedance when OUT is in shutdown or out of regulation.", 8 ADJ (in) "Output Adjust Pin. This is the input to the error amplifier. It has a typical bias current of 0.1nA flowing into the pin. The ADJ pin reference voltage is 0.4V referenced to ground. The output voltage range is 0.4V to 2.6V (See Datasheet)", 9 OUT (power) "Regulated Output Voltage. The OUT pins supply power to the load. A minimum output capacitance of 5uF is required to ensure stability. Larger output capacitors may be required for applications with large transient loads to (See Datasheet)", 10 OUT (power) "Regulated Output Voltage. The OUT pins supply power to the load. A minimum output capacitance of 5uF is required to ensure stability. Larger output capacitors may be required for applications with large transient loads to (See Datasheet)", 11 EP (power) "Ground and Heat Sink. Connect the exposed pad to the PCB ground plane or large pad for optimum thermal performance."